# Altium schematic symbol library MT53E256M16D1FW-046AIT&colon_B.SchLib: 2 symbols
Pins are listed as number, name and electrical type; pins without a type are passive.

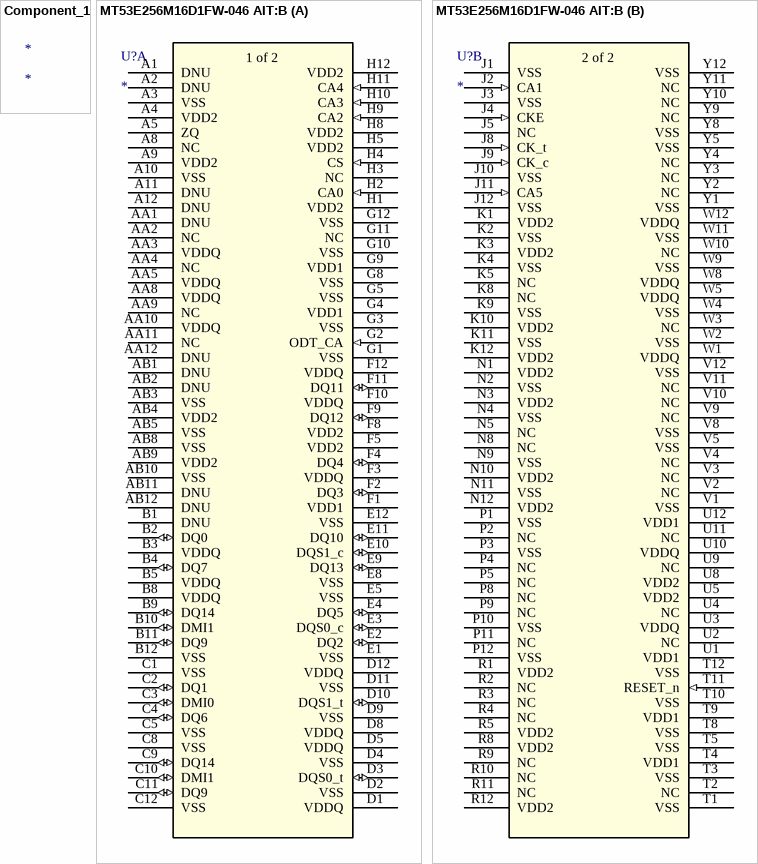
[diagram p0: symbols Component_1 to MT53E256M16D1FW-046 AIT:B]

## Component_1
designator *

## MT53E256M16D1FW-046 AIT:B
designator U?
No Description Available; Mfr_Name: Micron; Type: Memory; RefDes: RefDes
footprint TFBGA200_10X14p5X1p1_FW_MRN
part A pins: A1 DNU, A2 DNU, A3 VSS (power), A4 VDD2 (power), A5 ZQ (power), A8 NC, A9 VDD2 (power), A10 VSS (power), A11 DNU, A12 DNU, AA1 DNU, AA2 NC, AA3 VDDQ (power), AA4 NC, AA5 VDDQ (power), AA8 VDDQ (power), AA9 NC, AA10 VDDQ (power), AA11 NC, AA12 DNU, AB1 DNU, AB2 DNU, AB3 VSS (power), AB4 VDD2 (power), AB5 VSS (power), AB8 VSS (power), AB9 VDD2 (power), AB10 VSS (power), AB11 DNU, AB12 DNU, B1 DNU, B2 DQ0 (io), B3 VDDQ (power), B4 DQ7 (io), B5 VDDQ (power), B8 VDDQ (power), B9 DQ14 (io), B10 DMI1 (io), B11 DQ9 (io), B12 VSS (power), C1 VSS (power), C2 DQ1 (io), C3 DMI0 (io), C4 DQ6 (io), C5 VSS (power), C8 VSS (power), C9 DQ14 (io), C10 DMI1 (io), C11 DQ9 (io), C12 VSS (power), D1 VDDQ (power), D2 VSS (power), D3 DQS0_t (io), D4 VSS (power), D5 VDDQ (power), D8 VDDQ (power), D9 VSS (power), D10 DQS1_t (io), D11 VSS (power), D12 VDDQ (power), E1 VSS (power), E2 DQ2 (io), E3 DQS0_c (io), E4 DQ5 (io), E5 VSS (power), E8 VSS (power), E9 DQ13 (io), E10 DQS1_c (io), E11 DQ10 (io), E12 VSS (power), F1 VDD1 (power), F2 DQ3 (io), F3 VDDQ (power), F4 DQ4 (io), F5 VDD2 (power), F8 VDD2 (power), F9 DQ12 (io), F10 VDDQ (power), F11 DQ11 (io), F12 VDDQ (power), G1 VSS (power), G2 ODT_CA (in), G3 VSS (power), G4 VDD1 (power), G5 VSS (power), G8 VSS (power), G9 VDD1 (power), G10 VSS (power), G11 NC, G12 VSS (power), H1 VDD2 (power), H2 CA0 (in), H3 NC, H4 CS (in), H5 VDD2 (power), H8 VDD2 (power), H9 CA2 (in), H10 CA3 (in), H11 CA4 (in), H12 VDD2 (power)
part B pins: J1 VSS (power), J2 CA1 (in), J3 VSS (power), J4 CKE (in), J5 NC, J8 CK_t (in), J9 CK_c (in), J10 VSS (power), J11 CA5 (in), J12 VSS (power), K1 VDD2 (power), K2 VSS (power), K3 VDD2 (power), K4 VSS (power), K5 NC, K8 NC, K9 VSS (power), K10 VDD2 (power), K11 VSS (power), K12 VDD2 (power), N1 VDD2 (power), N2 VSS (power), N3 VDD2 (power), N4 VSS (power), N5 NC, N8 NC, N9 VSS (power), N10 VDD2 (power), N11 VSS (power), N12 VDD2 (power), P1 VSS (power), P2 NC, P3 VSS (power), P4 NC, P5 NC, P8 NC, P9 NC, P10 VSS (power), P11 NC, P12 VSS (power), R1 VDD2 (power), R2 NC, R3 NC, R4 NC, R5 VDD2 (power), R8 VDD2 (power), R9 NC, R10 NC, R11 NC, R12 VDD2 (power), T1 VSS (power), T2 NC, T3 VSS (power), T4 VDD1 (power), T5 VSS (power), T8 VSS (power), T9 VDD1 (power), T10 VSS (power), T11 RESET_n (in), T12 VSS (power), U1 VDD1 (power), U2 NC, U3 VDDQ (power), U4 NC, U5 VDD2 (power), U8 VDD2 (power), U9 NC, U10 VDDQ (power), U11 NC, U12 VDD1 (power), V1 VSS (power), V2 NC, V3 NC, V4 NC, V5 VSS (power), V8 VSS (power), V9 NC, V10 NC, V11 NC, V12 VSS (power), W1 VDDQ (power), W2 VSS (power), W3 NC, W4 VSS (power), W5 VDDQ (power), W8 VDDQ (power), W9 VSS (power), W10 NC, W11 VSS (power), W12 VDDQ (power), Y1 VSS (power), Y2 NC, Y3 NC, Y4 NC, Y5 VSS (power), Y8 VSS (power), Y9 NC, Y10 NC, Y11 NC, Y12 VSS (power)
part A text: 1 of 2
part B text: 2 of 2